# Altium integrated library SO-8.IntLib: 1 symbol
Pins are listed as number, name and electrical type; pins without a type are passive.

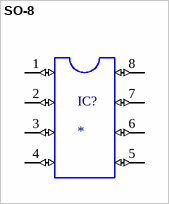
[diagram p0: symbol SO-8]

## SO-8
designator IC?
IC GATE DRVR HALF-BRIDGE DSO8; MP: SO-8; MF: Essentra; Package: None; SnapEDA_Link: https://www.snapeda.com/parts/SO-8/Essentra/view-part/?ref=snap; Price: None; Availability: Not in stock; Value: *; Check_prices: https://www.snapeda.com/parts/SO-8/Essentra/view-part/?ref=eda
footprint SO-8
pins: 1 (io), 2 (io), 3 (io), 4 (io), 5 (io), 6 (io), 7 (io), 8 (io)